# Altium footprint library Motion Controller.PcbLib: 208 footprints (part 6 of 13)
Each footprint in its own frame and in the unit in brackets; x right, y up, seen from the top. Pads: shape width x height; smd on the part's side, far side on the other; paste and mask are expansions set on the pad; w line width, h text height; cw(c..) or ccw(c..) is an arc to the next point about the centre after c.
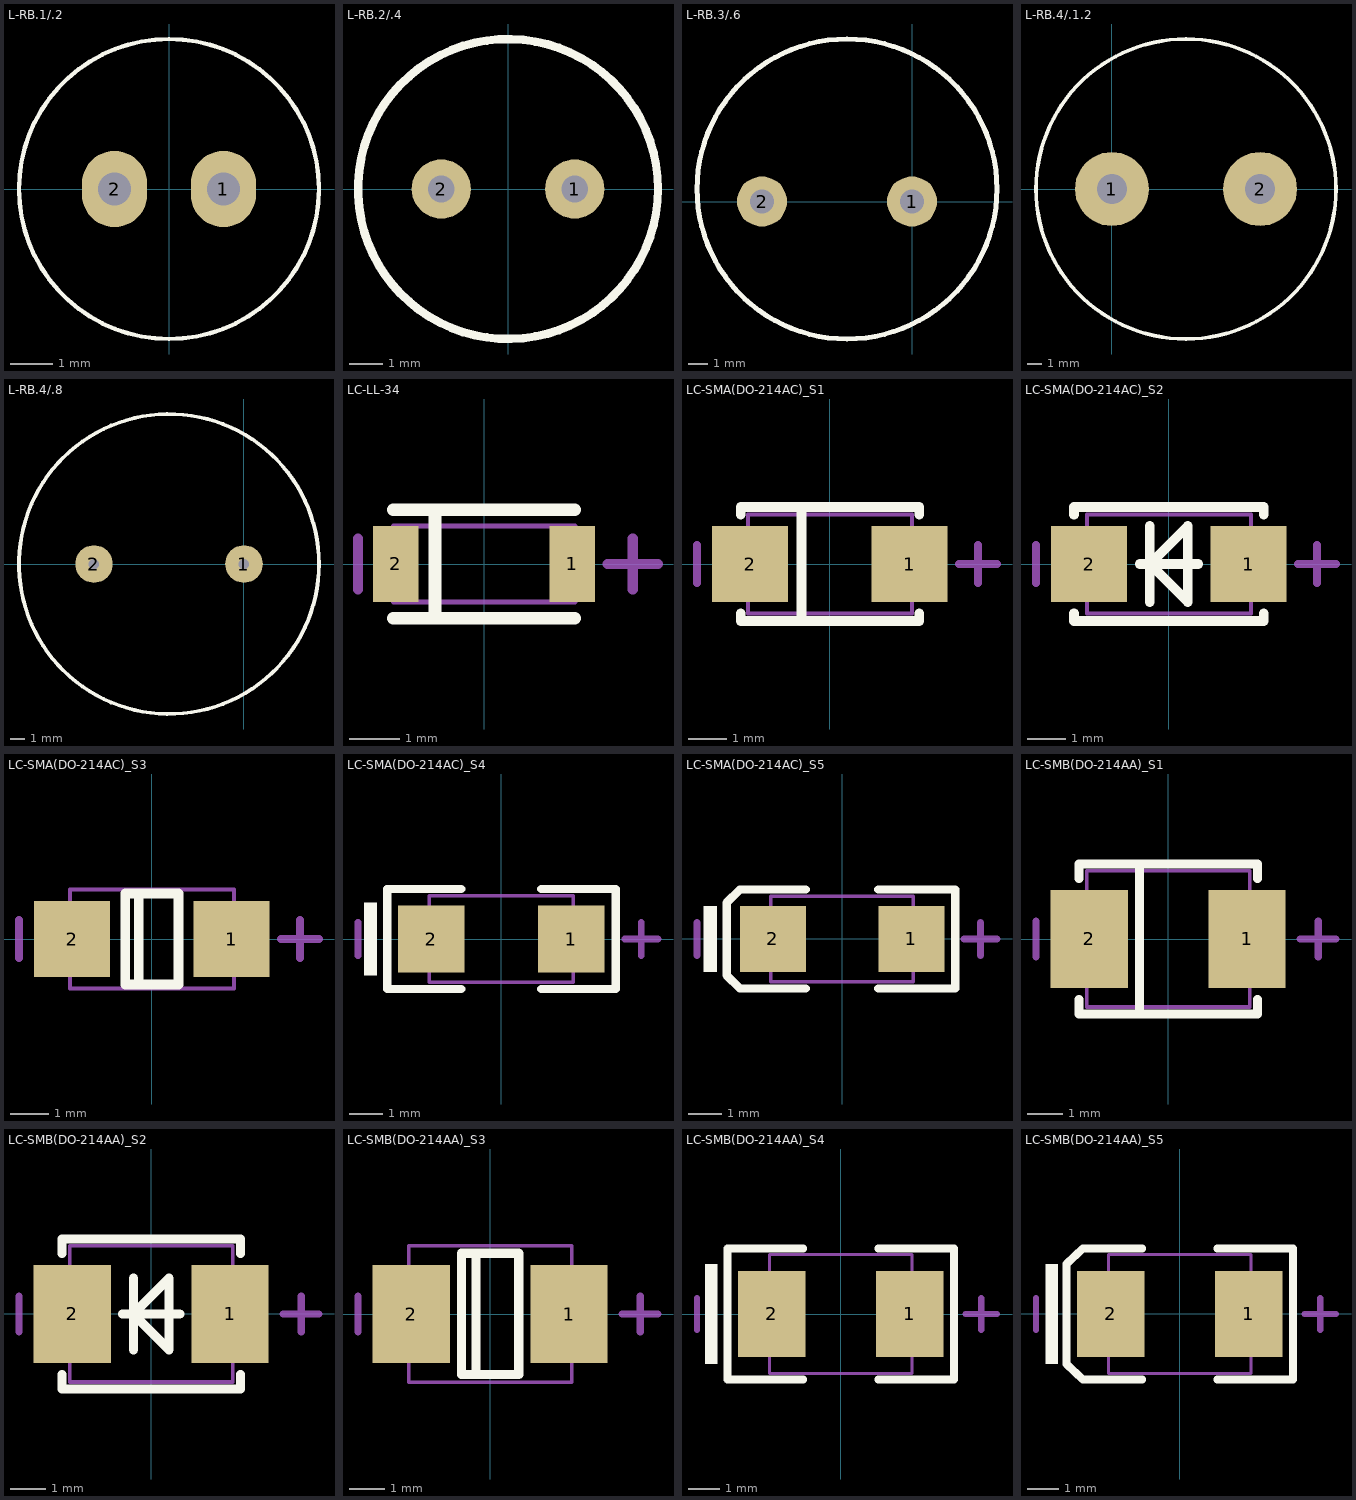
[diagram p5: the footprints below, top view; thin cyan lines are the x and y axes]

## L-RB.1/.2 [mil]
pads (2):
  oval 60x70 hole 30: 1(50,0) 2(-50,0)
Top Overlay:
  circle w3.94: c0,0 r137.8

## L-RB.2/.4 [mm]
pads (2):
  round 1.778 hole 0.8: 1(2,0) 2(-2,0)
Top Overlay:
  circle w0.254: c0,0 r4.5

## L-RB.3/.6 [mm]
pads (2):
  round 2.54 hole 1.2: 1(0,0) 2(-7.62,0)
Top Overlay:
  circle w0.254: c-3.302,0.635 r7.62

## L-RB.4/.1.2 [mil]
pads (2):
  round 200 hole 80: 1(0,0) 2(400,0)
Top Overlay:
  circle w10: c200,0 r405.25

## L-RB.4/.8 [mil]
pads (2):
  round 100 hole 28: 1(0,0) 2(-400,0)
Top Overlay:
  circle w10: c-200,0 r400

## LC-LL-34 [mm]
pads (2):
  rect 0.9x1.5 smd: 1(1.75,0) 2(-1.75,0)
Top Overlay:
  lines w0.254: -1.8,-1.075 1.8,-1.075 ; -1.8,1.075 1.8,1.075 ; -0.975,-1.075 -0.975,1.075
Mechanical 13:
  lines w0.1: -1.8,-0.75 -1.8,0.75 1.8,0.75 1.8,-0.75 -1.8,-0.75
Mechanical 15:
  lines w0.203: -2.5,-0.5 -2.5,0.5 ; 2.45,0 3.45,0 ; 2.95,-0.5 2.95,0.5

## LC-SMA(DO-214AC)_S1 [mm]
pads (2):
  rect 2x2 smd: 1(2.1,0) 2(-2.1,0)
Top Overlay:
  lines w0.254: -2.35,-1.3 -2.35,-1.5 2.35,-1.5 2.35,-1.3 ; -2.35,1.3 -2.35,1.5 2.35,1.5 2.35,1.3 ; -0.75,-1.5 -0.75,1.5
Mechanical 13:
  lines w0.1: -2.16,-1.3 2.16,-1.3 2.16,1.3 -2.16,1.3 -2.16,-1.3
Mechanical 15:
  lines w0.203: -3.5,-0.5 -3.5,0.5 ; 3.4,0 4.4,0 ; 3.9,-0.5 3.9,0.5

## LC-SMA(DO-214AC)_S2 [mm]
pads (2):
  rect 2x2 smd: 1(2.1,0) 2(-2.1,0)
Top Overlay:
  lines w0.254: -2.5,-1.3 -2.5,-1.5 2.5,-1.5 2.5,-1.3 ; -2.5,1.3 -2.5,1.5 2.5,1.5 2.5,1.3 ; -0.77,0 0.77,0 ; -0.5,-1 -0.5,1 ; -0.5,0 0.5,-1 0.5,1 -0.5,0
Mechanical 13:
  lines w0.1: -2.16,-1.3 2.16,-1.3 2.16,1.3 -2.16,1.3 -2.16,-1.3
Mechanical 15:
  lines w0.203: -3.5,-0.5 -3.5,0.5 ; 3.4,0 4.4,0 ; 3.9,-0.5 3.9,0.5

## LC-SMA(DO-214AC)_S3 [mm]
pads (2):
  rect 2x2 smd: 1(2.1,0) 2(-2.1,0)
Top Overlay:
  lines w0.254: -0.35,-1.2 -0.35,1.2 ; -0.7,-1.2 -0.7,1.2 0.7,1.2 0.7,-1.2 -0.7,-1.2
Mechanical 13:
  lines w0.1: -2.16,-1.3 -2.16,1.3 2.16,1.3 2.16,-1.3 -2.16,-1.3
Mechanical 15:
  lines w0.203: -3.5,-0.5 -3.5,0.5 ; 3.4,0 4.4,0 ; 3.9,-0.5 3.9,0.5

## LC-SMA(DO-214AC)_S4 [mm]
pads (2):
  rect 2x2 smd: 1(2.1,0) 2(-2.1,0)
Top Overlay:
  rectangle: -4.125,-1.1 -3.725,1.1
  lines w0.254: -3.43,1.5 -1.2,1.5 ; -3.429,1.5 -3.429,-1.5 -1.199,-1.5 ; 1.201,-1.5 3.431,-1.5 3.431,1.5 1.201,1.5
Mechanical 13:
  lines w0.1: -2.16,-1.3 2.16,-1.3 2.16,1.3 -2.16,1.3 -2.16,-1.3
Mechanical 15:
  lines w0.203: -4.3,-0.5 -4.3,0.5 ; 3.7,0 4.7,0 ; 4.2,-0.5 4.2,0.5

## LC-SMA(DO-214AC)_S5 [mm]
pads (2):
  rect 2x2 smd: 1(2.1,0) 2(-2.1,0)
Top Overlay:
  rectangle: -4.2,-1 -3.8,1
  lines w0.254: -1.1,-1.5 -3.1,-1.5 -3.5,-1.1 -3.5,1.1 -3.1,1.5 -1.1,1.5 ; 1.1,-1.5 3.431,-1.5 3.431,1.5 1.1,1.5
Mechanical 13:
  lines w0.1: -2.16,-1.3 2.16,-1.3 2.16,1.3 -2.16,1.3 -2.16,-1.3
Mechanical 15:
  lines w0.203: -4.4,-0.5 -4.4,0.5 ; 3.7,0 4.7,0 ; 4.2,-0.5 4.2,0.5

## LC-SMB(DO-214AA)_S1 [mm]
pads (2):
  rect 2.159x2.743 smd: 1(2.21,0) 2(-2.21,0)
Top Overlay:
  lines w0.254: -2.5,-1.7 -2.5,-2.1 2.5,-2.1 2.5,-1.7 ; -2.5,1.7 -2.5,2.1 2.5,2.1 2.5,1.7 ; -0.8,-2.1 -0.8,2.1
Mechanical 13:
  lines w0.1: -2.285,-1.905 2.285,-1.905 2.285,1.905 -2.285,1.905 -2.285,-1.905
Mechanical 15:
  lines w0.203: -3.7,-0.5 -3.7,0.5 ; 3.7,0 4.7,0 ; 4.2,-0.5 4.2,0.5

## LC-SMB(DO-214AA)_S2 [mm]
pads (2):
  rect 2.159x2.743 smd: 1(2.21,0) 2(-2.21,0)
Top Overlay:
  lines w0.254: -2.5,-1.7 -2.5,-2.1 2.5,-2.1 2.5,-1.7 ; -2.5,1.7 -2.5,2.1 2.5,2.1 2.5,1.7 ; -0.8,0 0.8,0 ; -0.5,-1 -0.5,1 ; -0.5,0 0.5,-1 0.5,1 -0.5,0
Mechanical 13:
  lines w0.1: -2.285,-1.905 -2.285,1.905 2.285,1.905 2.285,-1.905 -2.285,-1.905
Mechanical 15:
  lines w0.203: -3.7,-0.5 -3.7,0.5 ; 3.7,0 4.7,0 ; 4.2,-0.5 4.2,0.5

## LC-SMB(DO-214AA)_S3 [mm]
pads (2):
  rect 2.159x2.743 smd: 1(2.21,0) 2(-2.21,0)
Top Overlay:
  lines w0.254: -0.4,-1.7 -0.4,1.7 ; -0.8,-1.7 0.8,-1.7 0.8,1.7 -0.8,1.7 -0.8,-1.7
Mechanical 13:
  lines w0.1: -2.285,-1.905 2.285,-1.905 2.285,1.905 -2.285,1.905 -2.285,-1.905
Mechanical 15:
  lines w0.203: -3.7,-0.5 -3.7,0.5 ; 3.7,0 4.7,0 ; 4.2,-0.5 4.2,0.5

## LC-SMB(DO-214AA)_S4 [mm]
pads (2):
  rect 2.159x2.743 smd: 1(2.21,0) 2(-2.21,0)
Top Overlay:
  rectangle: -4.35,-1.6 -3.95,1.6
  lines w0.254: -1.2,-2.1 -3.625,-2.1 -3.625,2.1 -1.2,2.1 ; 1.2,-2.1 3.625,-2.1 3.625,2.1 1.2,2.1
Mechanical 13:
  lines w0.1: -2.285,-1.905 2.285,-1.905 2.285,1.905 -2.285,1.905 -2.285,-1.905
Mechanical 15:
  lines w0.203: -4.6,-0.5 -4.6,0.5 ; 4,0 5,0 ; 4.5,-0.5 4.5,0.5

## LC-SMB(DO-214AA)_S5 [mm]
pads (2):
  rect 2.159x2.743 smd: 1(2.21,0) 2(-2.21,0)
Top Overlay:
  rectangle: -4.296,-1.6 -3.896,1.6
  lines w0.254: -1.2,-2.1 -3.1,-2.1 -3.625,-1.6 -3.625,1.6 -3.1,2.1 -1.2,2.1 ; 1.2,-2.1 3.625,-2.1 3.625,2.1 1.2,2.1
Mechanical 13:
  lines w0.1: -2.285,-1.905 -2.285,1.905 2.285,1.905 2.285,-1.905 -2.285,-1.905
Mechanical 15:
  lines w0.203: -4.6,-0.5 -4.6,0.5 ; 4,0 5,0 ; 4.5,-0.5 4.5,0.5